# Altium integrated library WS-ROSV_rev15a.intlib: 16 symbols
Pins are listed as number, name and electrical type; pins without a type are passive.

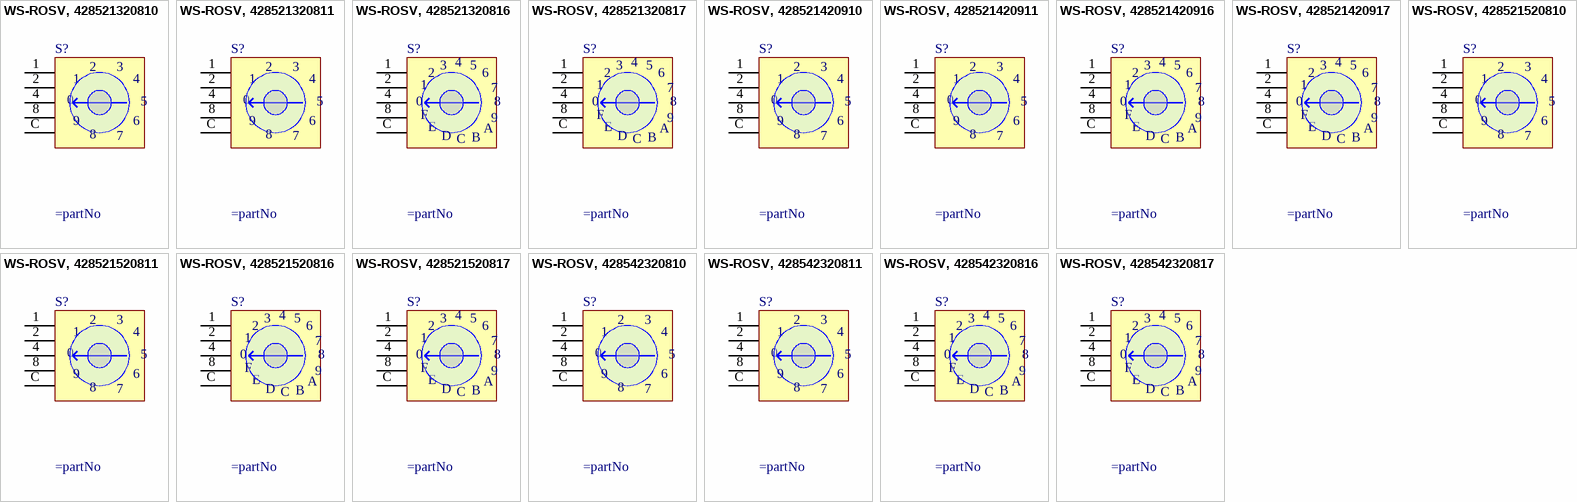
[diagram p0: symbols WS-ROSV, 428521320810 to WS-ROSV, 428542320817]

## WS-ROSV, 428521320810
designator S?
WS-ROSV 10x10 mm washable SMD arrow type; Manufacturer: Wurth Elektronik; Part No.: 428521320810; ComponentLink1 Description: Manufacturer; ComponentLink2 Description: Datasheet; Created Date: Dec.2015; ComponentLink1URL: http://www.we-online.com; ComponentLink2URL: http://katalog.we-online.de/em/datasheet/428521320810.pdf; Created by: Baojun Chen
footprint 428521320810 (10 position, 2.54mm Pitch, Horizontal type, SMD, Round Arrow type, light grey actuator, real code, T&R)
pins: 1, 2, 4, 8, C
text: 3; 0; 5; 9; 6; 7

## WS-ROSV, 428521320811
designator S?
WS-ROSV 10x10 mm washable SMD arrow type; Manufacturer: Wurth Elektronik; Part No.: 428521320811; ComponentLink1 Description: Manufacturer; ComponentLink2 Description: Datasheet; Created Date: Dec.2015; ComponentLink1URL: http://www.we-online.com; ComponentLink2URL: http://katalog.we-online.de/em/datasheet/428521320811.pdf; Created by: Baojun Chen
footprint 428521320811 (WS-ROSV 10x10 mm washable SMD arrow type)
pins: 1, 2, 4, 8, C
text: 3; 0; 5; 9; 6; 7

## WS-ROSV, 428521320816
designator S?
WS-ROSV 10x10 mm washable SMD arrow type; Manufacturer: Wurth Elektronik; Part No.: 428521320816; ComponentLink1 Description: Manufacturer; ComponentLink2 Description: Datasheet; Created Date: Dec.2015; ComponentLink1URL: http://www.we-online.com; ComponentLink2URL: http://katalog.we-online.de/em/datasheet/428521320816.pdf; Created by: Baojun Chen
footprint 428521320816 (16 position, 2.54mm Pitch, Horizontal type, SMD, Round Arrow)
pins: 1, 2, 4, 8, C
text: 3; 5; 6; 7; 0; F; 9; E; A; D; B

## WS-ROSV, 428521320817
designator S?
WS-ROSV 10x10 mm washable SMD arrow type; Manufacturer: Wurth Elektronik; Part No.: 428521320817; ComponentLink1 Description: Manufacturer; ComponentLink2 Description: Datasheet; Created Date: Dec.2015; ComponentLink1URL: http://www.we-online.com; ComponentLink2URL: http://katalog.we-online.de/em/datasheet/428521320817.pdf; Created by: Baojun Chen
footprint 428521320817 (10x10 mm washable SMD, Arrow Type, WS-ROSV)
pins: 1, 2, 4, 8, C
text: 3; 5; 6; 7; 0; F; 9; E; A; D; B

## WS-ROSV, 428521420910
designator S?
WS-ROSV 10x10 mm washable SMD shaft type; Manufacturer: Wurth Elektronik; Part No.: 428521420910; ComponentLink1 Description: Manufacturer; ComponentLink2 Description: Datasheet; Created Date: Dec.2015; ComponentLink1URL: http://www.we-online.com; ComponentLink2URL: http://katalog.we-online.de/em/datasheet/428521420910.pdf; Created by: Baojun Chen
footprint 428521420910 (10x10 mm washable SMD, Cross Type, WS-ROSV)
pins: 1, 2, 4, 8, C
text: 3; 0; 5; 9; 6; 7

## WS-ROSV, 428521420911
designator S?
WS-ROSV 10x10 mm washable SMD shaft type; Manufacturer: Wurth Elektronik; Part No.: 428521420911; ComponentLink1 Description: Manufacturer; ComponentLink2 Description: Datasheet; Created Date: Dec.2015; ComponentLink1URL: http://www.we-online.com; ComponentLink2URL: http://katalog.we-online.de/em/datasheet/428521420911.pdf; Created by: Baojun Chen
footprint 428521420911 (10x10 mm washable SMD, Shaft Type, WS-ROSV)
pins: 1, 2, 4, 8, C
text: 3; 0; 5; 9; 6; 7

## WS-ROSV, 428521420916
designator S?
WS-ROSV 10x10 mm washable SMD shaft type; Manufacturer: Wurth Elektronik; Part No.: 428521420916; ComponentLink1 Description: Manufacturer; ComponentLink2 Description: Datasheet; Created Date: Dec.2015; ComponentLink1URL: http://www.we-online.com; ComponentLink2URL: http://katalog.we-online.de/em/datasheet/428521420916.pdf; Created by: Baojun Chen
footprint 428521420916 (10x10 mm washable SMD, Shaft Type, WS-ROSV)
pins: 1, 2, 4, 8, C
text: 3; 5; 6; 7; 0; F; 9; E; A; D; B

## WS-ROSV, 428521420917
designator S?
WS-ROSV 10x10 mm washable SMD shaft type; Manufacturer: Wurth Elektronik; Part No.: 428521420917; ComponentLink1 Description: Manufacturer; ComponentLink2 Description: Datasheet; Created Date: Dec.2015; ComponentLink1URL: http://www.we-online.com; ComponentLink2URL: http://katalog.we-online.de/em/datasheet/428521420917.pdf; Created by: Baojun Chen
footprint 428521420917 (10x10 mm washable SMD, Shaft Type, WS-ROSV)
pins: 1, 2, 4, 8, C
text: 3; 5; 6; 7; 0; F; 9; E; A; D; B

## WS-ROSV, 428521520810
designator S?
WS-ROSV 10x10 mm washable SMD cross type; Manufacturer: Wurth Elektronik; Part No.: 428521520810; ComponentLink1 Description: Manufacturer; ComponentLink2 Description: Datasheet; Created Date: Dec.2015; ComponentLink1URL: http://www.we-online.com; ComponentLink2URL: http://katalog.we-online.de/em/datasheet/428521520810.pdf; Created by: Baojun Chen
footprint 428521520810 (10x10 mm washable SMD, Cross Type, WS-ROSV)
pins: 1, 2, 4, 8, C
text: 3; 0; 5; 9; 6; 7

## WS-ROSV, 428521520811
designator S?
WS-ROSV 10x10 mm washable SMD cross type; Manufacturer: Wurth Elektronik; Part No.: 428521520811; ComponentLink1 Description: Manufacturer; ComponentLink2 Description: Datasheet; Created Date: Dec.2015; ComponentLink1URL: http://www.we-online.com; ComponentLink2URL: http://katalog.we-online.de/em/datasheet/428521520811.pdf; Created by: Baojun Chen
footprint 428521520811 (10x10 mm washable SMD, Cross Type, WS-ROSV)
pins: 1, 2, 4, 8, C
text: 3; 0; 5; 9; 6; 7

## WS-ROSV, 428521520816
designator S?
WS-ROSV 10x10 mm washable SMD cross type; Manufacturer: Wurth Elektronik; Part No.: 428521520816; ComponentLink1 Description: Manufacturer; ComponentLink2 Description: Datasheet; Created Date: Dec.2015; ComponentLink1URL: http://www.we-online.com; ComponentLink2URL: http://katalog.we-online.de/em/datasheet/428521520816.pdf; Created by: Baojun Chen
footprint 428521520816 (10x10 mm washable SMD, Cross Type, WS-ROSV)
pins: 1, 2, 4, 8, C
text: 3; 5; 6; 7; 0; F; 9; E; A; D; B

## WS-ROSV, 428521520817
designator S?
WS-ROSV 10x10 mm washable SMD cross type; Manufacturer: Wurth Elektronik; Part No.: 428521520817; ComponentLink1 Description: Manufacturer; ComponentLink2 Description: Datasheet; Created Date: Dec.2015; ComponentLink1URL: http://www.we-online.com; ComponentLink2URL: http://katalog.we-online.de/em/datasheet/428521520817.pdf; Created by: Baojun Chen
footprint 428521520817 (10x10 mm washable SMD, Cross Type, WS-ROSV)
pins: 1, 2, 4, 8, C
text: 3; 5; 6; 7; 0; F; 9; E; A; D; B

## WS-ROSV, 428542320810
designator S?
WS-ROSV 7x7 mm washable SMD arrow type; Manufacturer: Wurth Elektronik; Part No.: 428542320810; ComponentLink1 Description: Manufacturer; ComponentLink2 Description: Datasheet; Created Date: Dec.2015; ComponentLink1URL: http://www.we-online.com; ComponentLink2URL: http://katalog.we-online.de/em/datasheet/428542320810.pdf; Created by: Baojun Chen
footprint 428542320810 (7*7mm, 10 position, 2.54mm Pitch, Horizontal type, SMD, Round Arrow type, red actuator, real code, T&R)
pins: 1, 2, 4, 8, C
text: 3; 0; 5; 9; 6; 7

## WS-ROSV, 428542320811
designator S?
WS-ROSV 7x7 mm washable SMD arrow type; Manufacturer: Wurth Elektronik; Part No.: 428542320811; ComponentLink1 Description: Manufacturer; ComponentLink2 Description: Datasheet; Created Date: Dec.2015; ComponentLink1URL: http://www.we-online.com; ComponentLink2URL: http://katalog.we-online.de/em/datasheet/428542320811.pdf; Created by: Baojun Chen
footprint 428542320811 (7x7 mm washable SMD WS-ROSV, arrow type)
pins: 1, 2, 4, 8, C
text: 3; 0; 5; 9; 6; 7

## WS-ROSV, 428542320816
designator S?
WS-ROSV 7x7 mm washable SMD arrow type; Manufacturer: Wurth Elektronik; Part No.: 428542320816; ComponentLink1 Description: Manufacturer; ComponentLink2 Description: Datasheet; Created Date: Dec.2015; ComponentLink1URL: http://www.we-online.com; ComponentLink2URL: http://katalog.we-online.de/em/datasheet/428542320816.pdf; Created by: Baojun Chen
footprint 428542320816 (7x7 mm washable SMD WS-ROSV, arrow type)
pins: 1, 2, 4, 8, C
text: 3; 5; 6; 7; 0; F; 9; E; A; D; B

## WS-ROSV, 428542320817
designator S?
WS-ROSV 7x7 mm washable SMD arrow type; Manufacturer: Wurth Elektronik; Part No.: 428542320817; ComponentLink1 Description: Manufacturer; ComponentLink2 Description: Datasheet; Created Date: Dec.2015; ComponentLink1URL: http://www.we-online.com; ComponentLink2URL: http://katalog.we-online.de/em/datasheet/428542320817.pdf; Created by: Baojun Chen
footprint 428542320817 (7x7 mm washable SMD WS-ROSV, arrow type)
pins: 1, 2, 4, 8, C
text: 3; 5; 6; 7; 0; F; 9; E; A; D; B